# Altium footprint library NHD12864WGBTMIVN.PcbLib: 1 footprints
Each footprint in its own frame and in the unit in brackets; x right, y up, seen from the top. Pads: shape width x height; smd on the part's side, far side on the other; paste and mask are expansions set on the pad; w line width, h text height; cw(c..) or ccw(c..) is an arc to the next point about the centre after c.
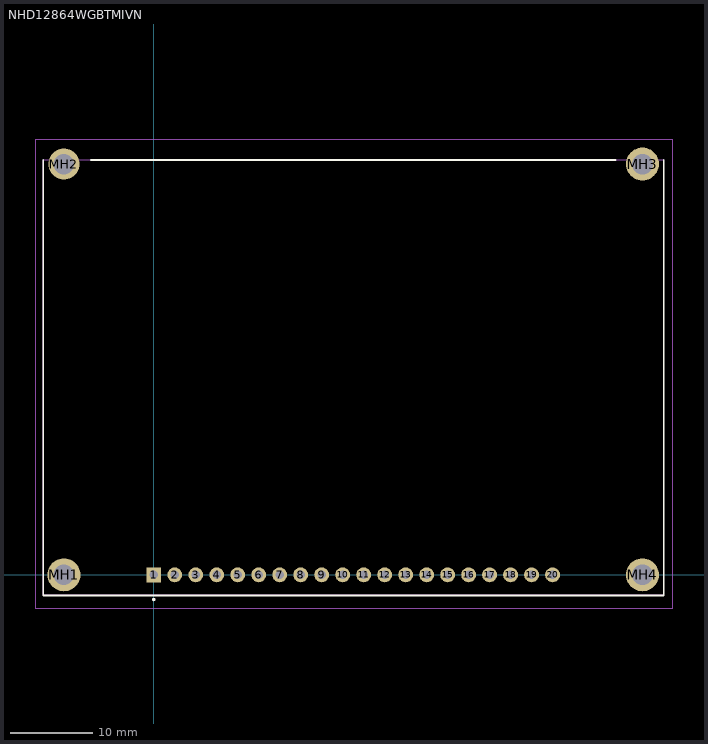
[diagram p0: the footprint, top view; thin cyan lines are the x and y axes]

## NHD12864WGBTMIVN [mm]
pads (24):
  rect 1.8x1.8 hole 1: 1(0,0)
  round 1.8 hole 1: 2(2.54,0) 3(5.08,0) 4(7.62,0) 5(10.16,0) 6(12.7,0) 7(15.24,0) 8(17.78,0) 9(20.32,0) 10(22.86,0) 11(25.4,0) 12(27.94,0) 13(30.48,0) 14(33.02,0) 15(35.56,0) 16(38.1,0) 17(40.64,0) 18(43.18,0) 19(45.72,0) 20(48.26,0)
  round 4 hole 2.5: MH1(-10.87,0) MH3(59.13,49.7) MH4(59.13,0)
  round 3.75 hole 2.5: MH2(-10.87,49.7)
Top Overlay:
  lines w0.2: -13.37,50.2 -13.37,-2.5 61.73,-2.5 61.73,7.62 61.73,50.2 ; -7.62,50.2 55.88,50.2 ; -0.1,-3 -0.1,-3 ; -0.1,-3 ccw(c0,-3) 0.1,-3 ; -0.1,-3 cw(c0,-3) 0.1,-3 ; 0.1,-3 0.1,-3
Mechanical 15:
  lines w0.1: -13.37,-2.5 61.63,-2.5 61.63,50.2 -13.37,50.2 -13.37,-2.5
Mechanical 20:
  lines w0.1: -14.27,-4.1 62.73,-4.1 62.73,52.7 -14.27,52.7 -14.27,-4.1